# Altium schematic symbol library D-SUB_25_angular_mother.SchLib: 1 symbol
Pins are listed as number, name and electrical type; pins without a type are passive.

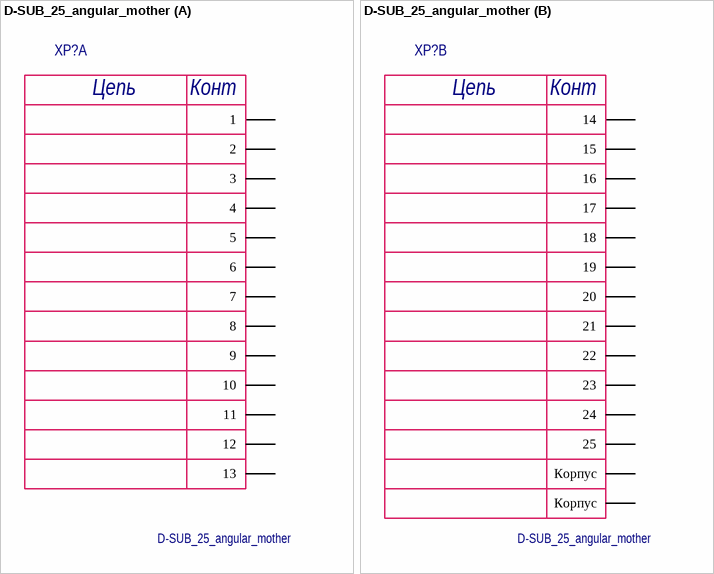
[diagram p0: symbol D-SUB_25_angular_mother]

## D-SUB_25_angular_mother
designator XP?
part A pins: 1, 2, 3, 4, 5, 6, 7, 8, 9, 10, 11, 12, 13
part B pins: 14, 15, 16, 17, 18, 19, 20, 21, 22, 23, 24, 25, SH1 Корпус, SH2 Корпус
part A text: Цепь; Конт
part B text: Цепь; Конт